# Altium schematic symbol library 1N4148W-7.SchLib: 1 symbol
Pins are listed as number, name and electrical type; pins without a type are passive.

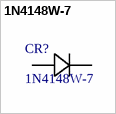
[diagram p0: symbol 1N4148W-7]

## 1N4148W-7
designator CR?
Description; Manufacturer_Name: Diodes Inc; Copyright: Copyright (C) 2026 Ultra Librarian. All rights reserved.; Manufacturer_Part_Number: 1N4148W-7
footprint SOD123_DIO
pins: 1, 2